# Altium integrated library Components - 23.04.26 - 03.45.IntLib: 1 symbol
Pins are listed as number, name and electrical type; pins without a type are passive.

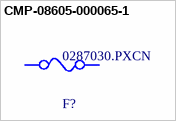
[diagram p0: symbol CMP-08605-000065-1]

## CMP-08605-000065-1
designator F?, comment 0287030.PXCN
FUSE AUTOMOTIVE 30A 32VDC BLADE; Manufacturer: Littelfuse Inc; Max Fuse Dc Voltage: 32V; Fuse Voltage Drop: 84mV; Fuse I2T: 1510A2Sec; Fuse Blow Speed: Medium; Resistance: 1.97mΩ; Value: 1.97mΩ; Fuse Interrupt Dc Current: 1000A; Fuse Current: 30A; Device Class L2: Fuses; Octopart: https://octopart.com/0287030.pxcn-littelfuse-19644293; Device Class L3: unset; Voltage Rating: 32V; RoHS: TRUE; ComponentLink2Description: Datasheet; Device Class L1: Circuit Protection; Ambient Temperature Range High: +105°C; ComponentLink2URL: https://www.littelfuse.com/~/media/automotive/datasheets/fuses/passenger-car-and-commercial-vehicle/blade-fuses/littelfuse_atof_datasheet.pdf; Automotive: Yes; Lead Free: Yes; Ambient Temperature Range Low: -40°C; Manufacturer Part Number: 0287030.PXCN; Mouser Description: Automotive Fuses ATOF 32V 30A Low-Current Nylon; Package: 0287; Category: Fuse; Digikey Description: FUSE AUTOMOTIVE 30A 32VDC BLADE
footprint FP-0287-MFG